# EAGLE library part PCA9548A (library pimoroni)
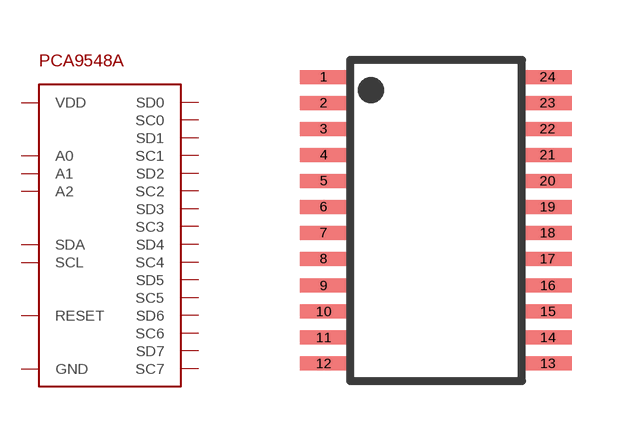
[diagram p41: symbol with the pads of TSSOP-24; footprint TSSOP-24]

Designator prefix -

## PCA9548A-TSSOP24  [TSSOP-24]
1  A0
2  A1
3  RESET
4  SD0
5  SC0
6  SD1
7  SC1
8  SD2
9  SC2
10  SD3
11  SC3
12  GND
13  SD4
14  SC4
15  SD5
16  SC5
17  SD6
18  SC6
19  SD7
20  SC7
21  A2
22  SCL
23  SDA
24  VDD

## Footprint TSSOP-24 (pad centres in mm)
smd 1.2 x 0.35: 1 -2.808,2.275; 2 -2.808,1.625; 3 -2.808,0.975; 4 -2.808,0.325; 5 -2.808,-0.325; 6 -2.808,-0.975; 7 -2.808,-1.625; 8 -2.808,-2.275; 9 -2.806,-2.95; 10 -2.806,-3.6; 11 -2.806,-4.25; 12 -2.806,-4.9; 13 2.803,-4.897; 14 2.803,-4.247; 15 2.803,-3.597; 16 2.803,-2.947; 17 2.795,-2.279; 18 2.795,-1.629; 19 2.795,-0.979; 20 2.795,-0.329; 21 2.795,0.325; 22 2.795,0.975; 23 2.795,1.625; 24 2.795,2.275